# Altium schematic symbol library integrated.SchLib: 14 symbols
Pins are listed as number, name and electrical type; pins without a type are passive.

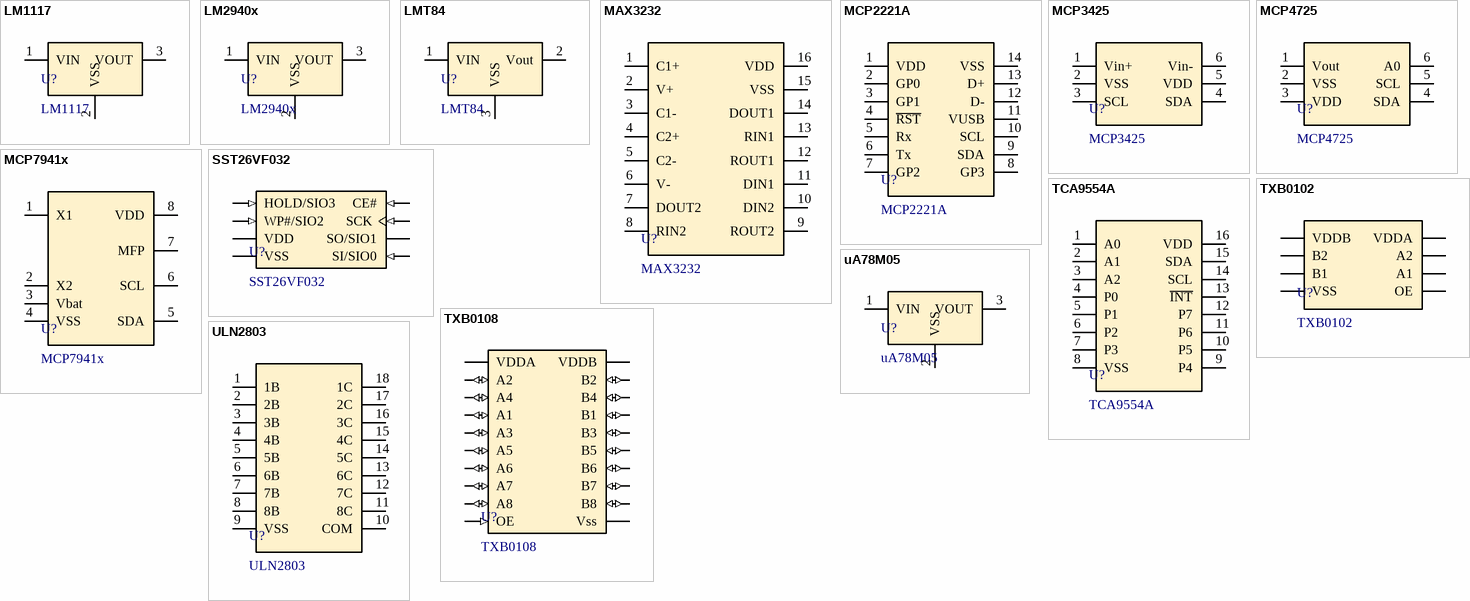
[diagram p0: symbols LM1117 to ULN2803]

## LM1117
designator U?
VIN (min): 4.75V; VIN (max): 15V; VOUT: 3.3V; IOUT (max): 800mA; I_Quiescent (max): 10mA; ComponentLink1Description: Datasheet; ComponentLink1URL: http://www.ti.com/lit/ds/symlink/ua78m.pdf?&ts=1589638247503
footprint TO-220 (H)
footprint TO-220 (V)
pins: 1 VIN, 2 VSS, 3 VOUT

## LM2940x
designator U?
VIN (min): 10.5V; VIN (max): 26V; VOUT: 9V; IOUT (max): 1A; I_Quiescent (max): 20mA; ComponentLink1Description: Datasheet; ComponentLink1URL: http://www.ti.com/lit/ds/symlink/lm2940-n.pdf?&ts=1589639085194
footprint TO-220 (V)
footprint TO-220 (H)
pins: 1 VIN, 2 VSS, 3 VOUT

## LMT84
designator U?
VDD (min): 1.5V; VDD (max): 5.5V; IDD: 9uA; ComponentLink1Description: Datasheet; ComponentLink1URL: http://www.ti.com/lit/ds/symlink/lmt84.pdf?&ts=1589637241911
footprint TO-92 (STRAIGHT)
pins: 1 VIN, 2 Vout, 3 VSS

## MAX3232
designator U?
VDD (min): 3V; VDD (max): 5.5V; IDD: 1mA; ComponentLink1Description: Datasheet; ComponentLink1URL: http://www.ti.com/lit/ds/symlink/max3232.pdf?&ts=1589636660726
footprint SOIC-16 (150mil)
footprint TSSOP-16
footprint SOIC-16 (300MIL)
pins: 1 C1+, 2 V+, 3 C1-, 4 C2+, 5 C2-, 6 V-, 7 DOUT2, 8 RIN2, 9 ROUT2, 10 DIN2, 11 DIN1, 12 ROUT1, 13 RIN1, 14 DOUT1, 15 VSS, 16 VDD

## MCP2221A
designator U?
VDD (min): 3.0V; VDD (max): 5.5V; ICC (max): 15mA; ComponentLink1Description: Datasheet; ComponentLink1URL: http://ww1.microchip.com/downloads/en/devicedoc/20005565b.pdf
footprint SOIC-14
footprint TSSOP-14
pins: 1 VDD, 2 GP0, 3 GP1, 4 ~{RST}, 5 Rx, 6 Tx, 7 GP2, 8 GP3, 9 SDA, 10 SCL, 11 VUSB, 12 D-, 13 D+, 14 VSS

## MCP3425
designator U?
VDD (min): 2.7V; VDD (max): 5.5V; ICC (max): 400uA; ComponentLink1Description: Datasheet; ComponentLink1URL: https://ww1.microchip.com/downloads/en/DeviceDoc/22072b.pdf
footprint SOT-23-6
pins: 1 Vin+, 2 VSS, 3 SCL, 4 SDA, 5 VDD, 6 Vin-

## MCP4725
designator U?
VDD (min): 2.7V; VDD (max): 5.5V; ICC (max): 400uA; ComponentLink1Description: Datasheet; ComponentLink1URL: http://ww1.microchip.com/downloads/en/devicedoc/22039d.pdf
footprint SOT-23-6
pins: 1 Vout, 2 VSS, 3 VDD (power), 4 SDA, 5 SCL, 6 A0

## MCP7941x
designator U?
VDD (min): 1.8V; VDD (max): 5.5V; ComponentLink1Description: Datasheet; ComponentLink1URL: http://ww1.microchip.com/downloads/en/DeviceDoc/22266B.pdf
footprint SOIC-8
footprint TSSOP-8
footprint MSOP-8
pins: 1 X1, 2 X2, 3 Vbat (power), 4 VSS, 5 SDA, 6 SCL, 7 MFP, 8 VDD

## SST26VF032
designator U?
VDD (min): 2.7V; VDD (max): 3.6; ICCr @104MHz: 20mA; ICCw: 25mA; ComponentLink1Description: Datasheet; ComponentLink1URL: http://ww1.microchip.com/downloads/en/devicedoc/25017a.pdf
footprint SOIJ-8
pins: 1 CE# (in), 2 SO/SIO1 (oc), 3 WP#/SIO2 (in), 4 VSS (power), 5 SI/SIO0 (in), 6 SCK (in), 7 HOLD/SIO3 (in), 8 VDD (power)

## TCA9554A
designator U?
VDD (min): 1.65V; VDD (max): 5.5V; ICC: 80mA; ComponentLink1Description: Datasheet; ComponentLink1URL: http://www.ti.com/lit/ds/symlink/tca9554a.pdf?&ts=1589634702475
footprint TSSOP-16
footprint SSOP-16
footprint SOIC-16 (300MIL)
pins: 1 A0, 2 A1, 3 A2, 4 P0, 5 P1, 6 P2, 7 P3, 8 VSS, 9 P4, 10 P5, 11 P6, 12 P7, 13 ~{INT}, 14 SCL, 15 SDA, 16 VDD

## TXB0102
designator U?
VDDB (max): 5.5V; VDDB (min): 1.65V; VDDA (max): 3.6V; VDDA (min): 1.2V; IDDB (max): 5uA; IDDA (max): 5uA; ComponentLink1Description: Datasheet; ComponentLink1URL: http://www.ti.com/lit/ds/symlink/txb0102.pdf?&ts=1589634688933
footprint TSSOP-20
pins: 1 B2, 2 VSS, 3 VDDA (power), 4 A2, 5 A1, 6 OE, 7 VDDB, 8 B1

## TXB0108
designator U?
VDDB (max): 5.5V; VDDB (min): 1.65V; VDDA (max): 3.6V; VDDA (min): 1.2V; IDDB (max): 5uA; IDDA (max): 5uA; ComponentLink1Description: Datasheet; ComponentLink1URL: http://www.ti.com/lit/ds/symlink/txb0108.pdf?&ts=1589634685869
footprint TSSOP-20
pins: 1 A1 (io), 2 A2 (io), 3 A3 (io), 4 A4 (io), 5 VDDA (power), 6 OE (in), 7 A5 (io), 8 A6 (io), 9 A7 (io), 10 A8 (io), 11 B8 (io), 12 B7 (io), 13 B6 (io), 14 B5 (io), 15 Vss, 16 VDDB (power), 17 B4 (io), 18 B3 (io), 19 B2 (io), 20 B1 (io)

## uA78M05
designator U?
VIN (min): 7V; VIN (max): 25V; VOUT: 5V; IOUT (max): 500mA; I_Quiescent (max): 6mA; ComponentLink1Description: Datasheet; ComponentLink1URL: http://www.ti.com/lit/ds/symlink/ua78m.pdf?&ts=1589638247503
footprint TO-220 (H)
footprint TO-220 (V)
footprint TO-252
pins: 1 VIN, 2 VSS, 3 VOUT

## ULN2803
designator U?
Vce: 50V; Vi: 30V; Iec: 500mA; ComponentLink1Description: Datasheet; ComponentLink1URL: http://www.ti.com/lit/ds/symlink/uln2803a.pdf?&ts=1589632455566
footprint SOIC-18 (300MIL)
pins: 1 1B, 2 2B, 3 3B, 4 4B, 5 5B, 6 6B, 7 7B, 8 8B, 9 VSS (power), 10 COM, 11 8C, 12 7C, 13 6C, 14 5C, 15 4C, 16 3C, 17 2C, 18 1C